# EAGLE library part SD (library untitled)
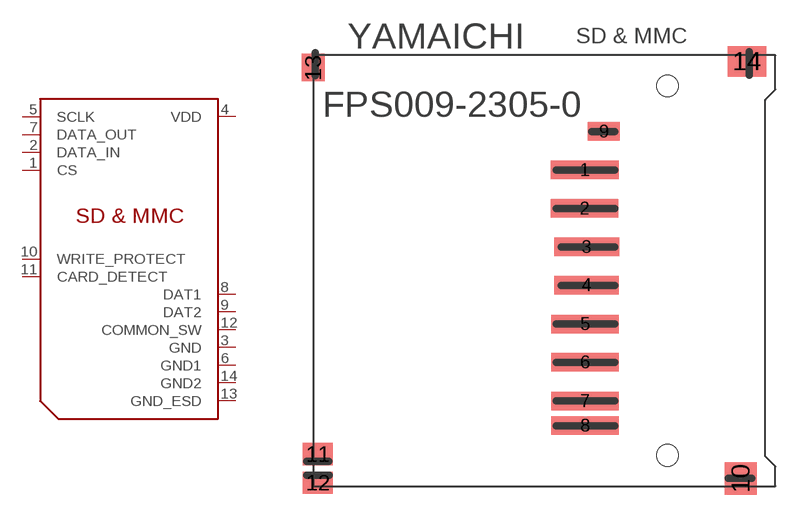
[diagram p0: symbol with the pads of FPS009-2305; footprint FPS009-2305]

Designator prefix X

## SD_2305  [FPS009-2305]
1  CS
2  DATA_IN
3  GND  pwr
4  VDD  pwr
5  SCLK
6  GND1  pwr
7  DATA_OUT
8  DAT1
9  DAT2
10  WRITE_PROTECT
11  CARD_DETECT
12  COMMON_SW
13  GND_ESD  pwr
14  GND2  pwr

## Footprint FPS009-2305 (pad centres in mm)
smd 4.4 x 1.2: 1 -5.38,6.54; 2 -5.39,4.04; 5 -5.36,-3.47; 6 -5.36,-5.96; 7 -5.36,-8.48; 8 -5.36,-10.07
smd 4.2 x 1.2: 3 -5.25,1.54; 4 -5.26,-0.94
smd 2.1 x 1.2: 9 -4.14,9.04
smd 2.1 x 2.1: 10 4.75,-13.5
smd 1.95 x 1.45: 11 -22.7,-11.92; 12 -22.7,-13.78
smd 1.5 x 1.8: 13 -23.01,13.2
smd 2.5 x 2: 14 5.15,13.6
hole 1.4 at 0,12
hole 1.4 at 0,-12